# Altium footprint library C_ALU_F.PcbLib: 1 footprints
Each footprint in its own frame and in the unit in brackets; x right, y up, seen from the top. Pads: shape width x height; smd on the part's side, far side on the other; paste and mask are expansions set on the pad; w line width, h text height; cw(c..) or ccw(c..) is an arc to the next point about the centre after c.
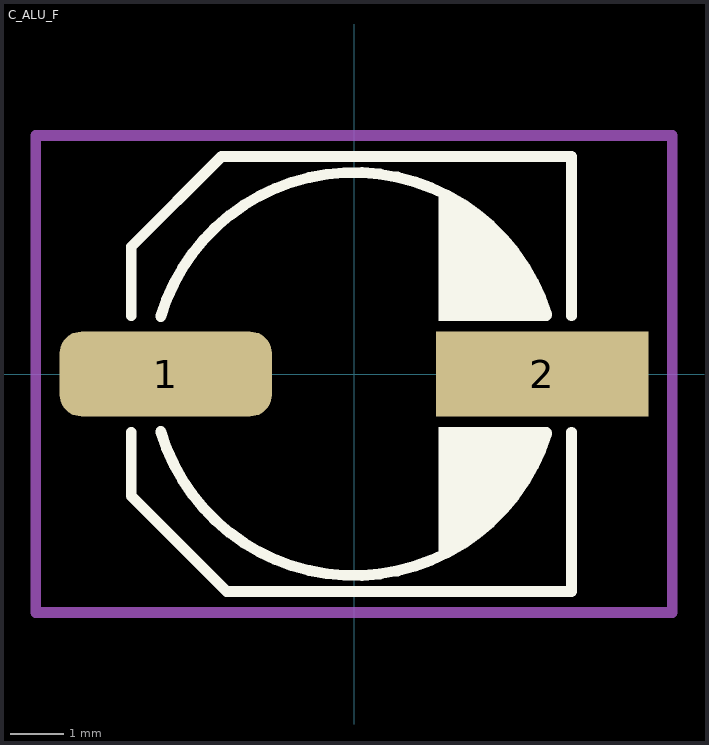
[diagram p0: the footprint, top view; thin cyan lines are the x and y axes]

## C_ALU_F [mm] "8.0mm x 10.2mm"
height 10.2
pads (2):
  rrect50% 4x1.6 smd: 1(-3.55,0)
  rect 4x1.6 smd: 2(3.55,0)
Top Overlay:
  region: 3.663,-1.017 3.663,-1 1.6,-1 1.6,-3.4 2.2,-3.1 2.7,-2.7 3.1,-2.2 3.5,-1.5
  region: 3.663,1.017 3.663,1 1.6,1 1.6,3.4 2.2,3.1 2.7,2.7 3.1,2.2 3.5,1.5
  lines w0.203: -4.2,-1.1 -4.2,-2.3 -2.4,-4.1 -1.8,-4.1 4.1,-4.1 4.1,-1.1 ; -4.2,1.1 -4.2,2.4 -2.5,4.1 -1.8,4.1 4.1,4.1 4.1,1.1 ; -3.644,-1.083 ccw(c0,0) 3.635,-1.111 ; -3.644,1.083 cw(c0,0) 3.635,1.111
Mechanical 15:
  lines w0.203: -6,-4.5 -0.5,-4.5 6,-4.5 6,4.5 -6,4.5 -6,-4.5
3D body "Cap_SMT_Aluminum_F.STEP": height 10.22, standoff 0, extent -5,-4.15 4.9,4.15